# Altium schematic symbol library Electromechanics.SchLib: 4 symbols
Pins are listed as number, name and electrical type; pins without a type are passive.

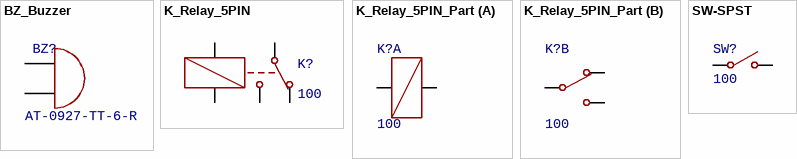
[diagram p0: symbols BZ_Buzzer to SW-SPST]

## BZ_Buzzer
designator BZ?, comment AT-0927-TT-6-R
Buzzer; Manufacture: PUI Audio, Inc.; Value: AT-0927-TT-6-R; PartNo: AT-0927-TT-6-R; Package: =Footprint; HelpURL: https://www.digikey.com/en/products/detail/pui-audio-inc/AT-0927-TT-6-R/5011396
pins: 1 A, 2 B

## K_Relay_5PIN
designator K?, comment 100
Relay 5Pin; Value: 100; Manufacture: *; PartNo: *; Package: =Footprint; HelpURL: *
pins: 1 C, 2 NC, 3 NO, 4, 5

## K_Relay_5PIN_Part
designator K?, comment 100
Relay 5Pin Parts; Value: 100; Manufacture: *; PartNo: *; Package: =Footprint; HelpURL: *
part A pins: 4, 5
part B pins: 1 C, 2 NC, 3 NO

## SW-SPST
designator SW?, comment 100
Switch; Value: 100; Manufacture: *; PartNo: *; Package: =Footprint; HelpURL: *
pins: 1 COMMON, 2 NO